# Altium schematic symbol library SCH - MCU - NUVOTON - NUVOTON NANO100ND3BN.SchLib: 1 symbol
Pins are listed as number, name and electrical type; pins without a type are passive.

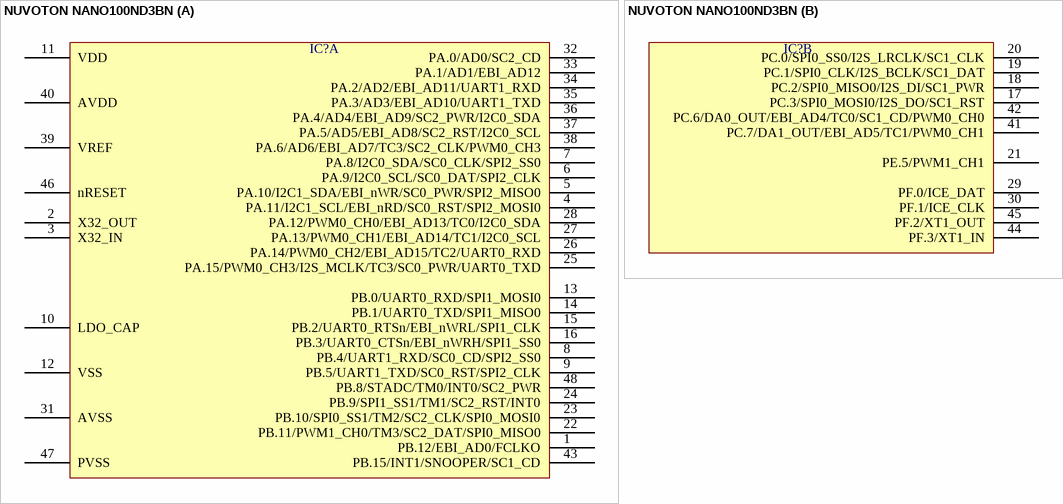
[diagram p0: symbol NUVOTON NANO100ND3BN]

## NUVOTON NANO100ND3BN
designator IC?  (value not drawn)
part A pins: 1 PB.12/EBI_AD0/FCLKO, 2 X32_OUT, 3 X32_IN, 4 PA.11/I2C1_SCL/EBI_nRD/SC0_RST/SPI2_MOSI0, 5 PA.10/I2C1_SDA/EBI_nWR/SC0_PWR/SPI2_MISO0, 6 PA.9/I2C0_SCL/SC0_DAT/SPI2_CLK, 7 PA.8/I2C0_SDA/SC0_CLK/SPI2_SS0, 8 PB.4/UART1_RXD/SC0_CD/SPI2_SS0, 9 PB.5/UART1_TXD/SC0_RST/SPI2_CLK, 10 LDO_CAP, 11 VDD, 12 VSS, 13 PB.0/UART0_RXD/SPI1_MOSI0, 14 PB.1/UART0_TXD/SPI1_MISO0, 15 PB.2/UART0_RTSn/EBI_nWRL/SPI1_CLK, 16 PB.3/UART0_CTSn/EBI_nWRH/SPI1_SS0, 22 PB.11/PWM1_CH0/TM3/SC2_DAT/SPI0_MISO0, 23 PB.10/SPI0_SS1/TM2/SC2_CLK/SPI0_MOSI0, 24 PB.9/SPI1_SS1/TM1/SC2_RST/INT0, 25 PA.15/PWM0_CH3/I2S_MCLK/TC3/SC0_PWR/UART0_TXD, 26 PA.14/PWM0_CH2/EBI_AD15/TC2/UART0_RXD, 27 PA.13/PWM0_CH1/EBI_AD14/TC1/I2C0_SCL, 28 PA.12/PWM0_CH0/EBI_AD13/TC0/I2C0_SDA, 31 AVSS, 32 PA.0/AD0/SC2_CD, 33 PA.1/AD1/EBI_AD12, 34 PA.2/AD2/EBI_AD11/UART1_RXD, 35 PA.3/AD3/EBI_AD10/UART1_TXD, 36 PA.4/AD4/EBI_AD9/SC2_PWR/I2C0_SDA, 37 PA.5/AD5/EBI_AD8/SC2_RST/I2C0_SCL, 38 PA.6/AD6/EBI_AD7/TC3/SC2_CLK/PWM0_CH3, 39 VREF, 40 AVDD, 43 PB.15/INT1/SNOOPER/SC1_CD, 46 nRESET, 47 PVSS, 48 PB.8/STADC/TM0/INT0/SC2_PWR
part B pins: 17 PC.3/SPI0_MOSI0/I2S_DO/SC1_RST, 18 PC.2/SPI0_MISO0/I2S_DI/SC1_PWR, 19 PC.1/SPI0_CLK/I2S_BCLK/SC1_DAT, 20 PC.0/SPI0_SS0/I2S_LRCLK/SC1_CLK, 21 PE.5/PWM1_CH1, 29 PF.0/ICE_DAT, 30 PF.1/ICE_CLK, 41 PC.7/DA1_OUT/EBI_AD5/TC1/PWM0_CH1, 42 PC.6/DA0_OUT/EBI_AD4/TC0/SC1_CD/PWM0_CH0, 44 PF.3/XT1_IN, 45 PF.2/XT1_OUT